# EAGLE library part ADL5501AKSZ-R7 (library JerParts)
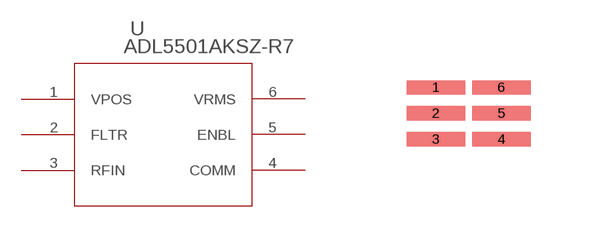
[diagram p2: symbol with the pads of KS_6; footprint KS_6]

Designator prefix U

## ADL5501AKSZ-R7  [KS_6]
1  VPOS  pas
2  FLTR  pas
3  RFIN  pas
4  COMM  pas
5  ENBL  pas
6  VRMS  pas

## Footprint KS_6 (pad centres in mm)
smd 1.473 x 0.356: 1 -0.819,0.65; 2 -0.819,0; 3 -0.819,-0.65; 4 0.819,-0.65; 5 0.819,0; 6 0.819,0.65